# EAGLE library part 741256-49 (library con-conrad)
Connector with Kabel
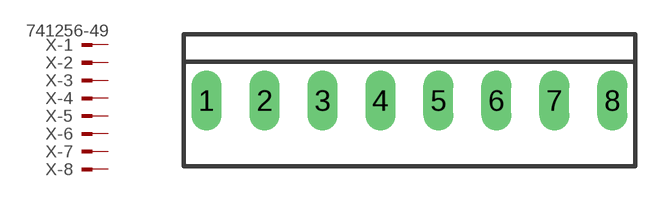
[diagram p0: symbol with the pads of 741256-49; footprint 741256-49]

Designator prefix X; gates -1=PIN-NV -2=PIN-N -3=PIN-N -4=PIN-N -5=PIN-N -6=PIN-N -7=PIN-N -8=PIN-N

## 741256-49  [741256-49]
1  -1:KL  pas
2  -2:KL  pas
3  -3:KL  pas
4  -4:KL  pas
5  -5:KL  pas
6  -6:KL  pas
7  -7:KL  pas
8  -8:KL  pas

## Footprint 741256-49 (pad centres in mm)
Pin connector 741256-49 vertikal
drill 0.813 pad 1.27 long: 1 -8.89,0; 2 -6.35,0; 3 -3.81,0; 4 -1.27,0; 5 1.27,0; 6 3.81,0; 7 6.35,0; 8 8.89,0